# Altium schematic symbol library FLASH.SchLib: 1 symbol
Pins are listed as number, name and electrical type; pins without a type are passive.

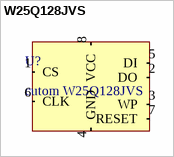
[diagram p0: symbol W25Q128JVS]

## W25Q128JVS
designator U?, comment cutom W25Q128JVS
footprint SOIC127P790X216-8N
pins: 1 CS, 2 DO, 3 WP, 4 GND, 5 DI, 6 CLK, 7 RESET, 8 VCC